# EAGLE library part WS2813 (library extra)
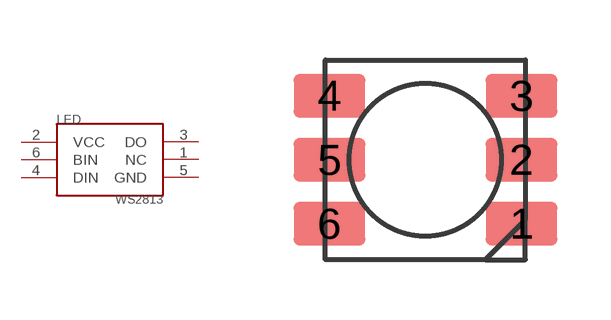
[diagram p0: symbol with the pads of WS2813; footprint WS2813]

Designator prefix LED

## WS2813  [WS2813]
1  NC  nc
2  VCC  pwr
3  DO
4  DIN
5  GND  pwr
6  BIN

## Footprint WS2813 (pad centres in mm)
smd 1.8 x 1.1: 1 2.4,-1.6; 2 2.4,0; 3 2.4,1.6; 4 -2.4,1.6; 5 -2.4,0; 6 -2.4,-1.6